# Altium schematic symbol library Transducers.SCHLIB: 5 symbols
Pins are listed as number, name and electrical type; pins without a type are passive.

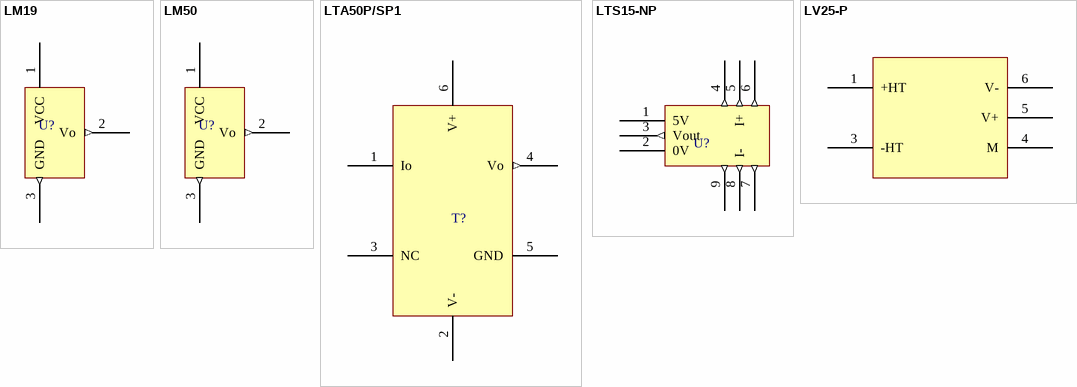
[diagram p0: symbols LM19 to LV25-P]

## LM19
designator U?
Temperature sensor
footprint TO-92
pins: 1 VCC (power), 2 Vo (out), 3 GND (out)

## LM50
designator U?
Temperature sensor
footprint SOT23(3)
pins: 1 VCC (power), 2 Vo (out), 3 GND (out)

## LTA50P/SP1
designator T?
LEM Current Transducer
footprint LTA50P/SP1
pins: 1 Io, 2 V- (power), 3 NC, 4 Vo (out), 5 GND (power), 6 V+ (power)

## LTS15-NP
designator U?
LEM 15A Nominal current transducer
footprint LTS15-NP (LEM  current transducer footprint)
pins: 1 5V (power), 2 0V (power), 3 Vout (out), 4 I+ (out), 5 I+ (out), 6 I+ (out), 7 I- (out), 8 I- (out), 9 I- (out)

## LV25-P
designator ?
LEM Voltage Transducer
pins: 1 +HT, 3 -HT, 4 M, 5 V+, 6 V-